# Altium footprint library Capacitor.PcbLib: 39 footprints (part 1 of 3)
Each footprint in its own frame and in the unit in brackets; x right, y up, seen from the top. Pads: shape width x height; smd on the part's side, far side on the other; paste and mask are expansions set on the pad; w line width, h text height; cw(c..) or ccw(c..) is an arc to the next point about the centre after c.
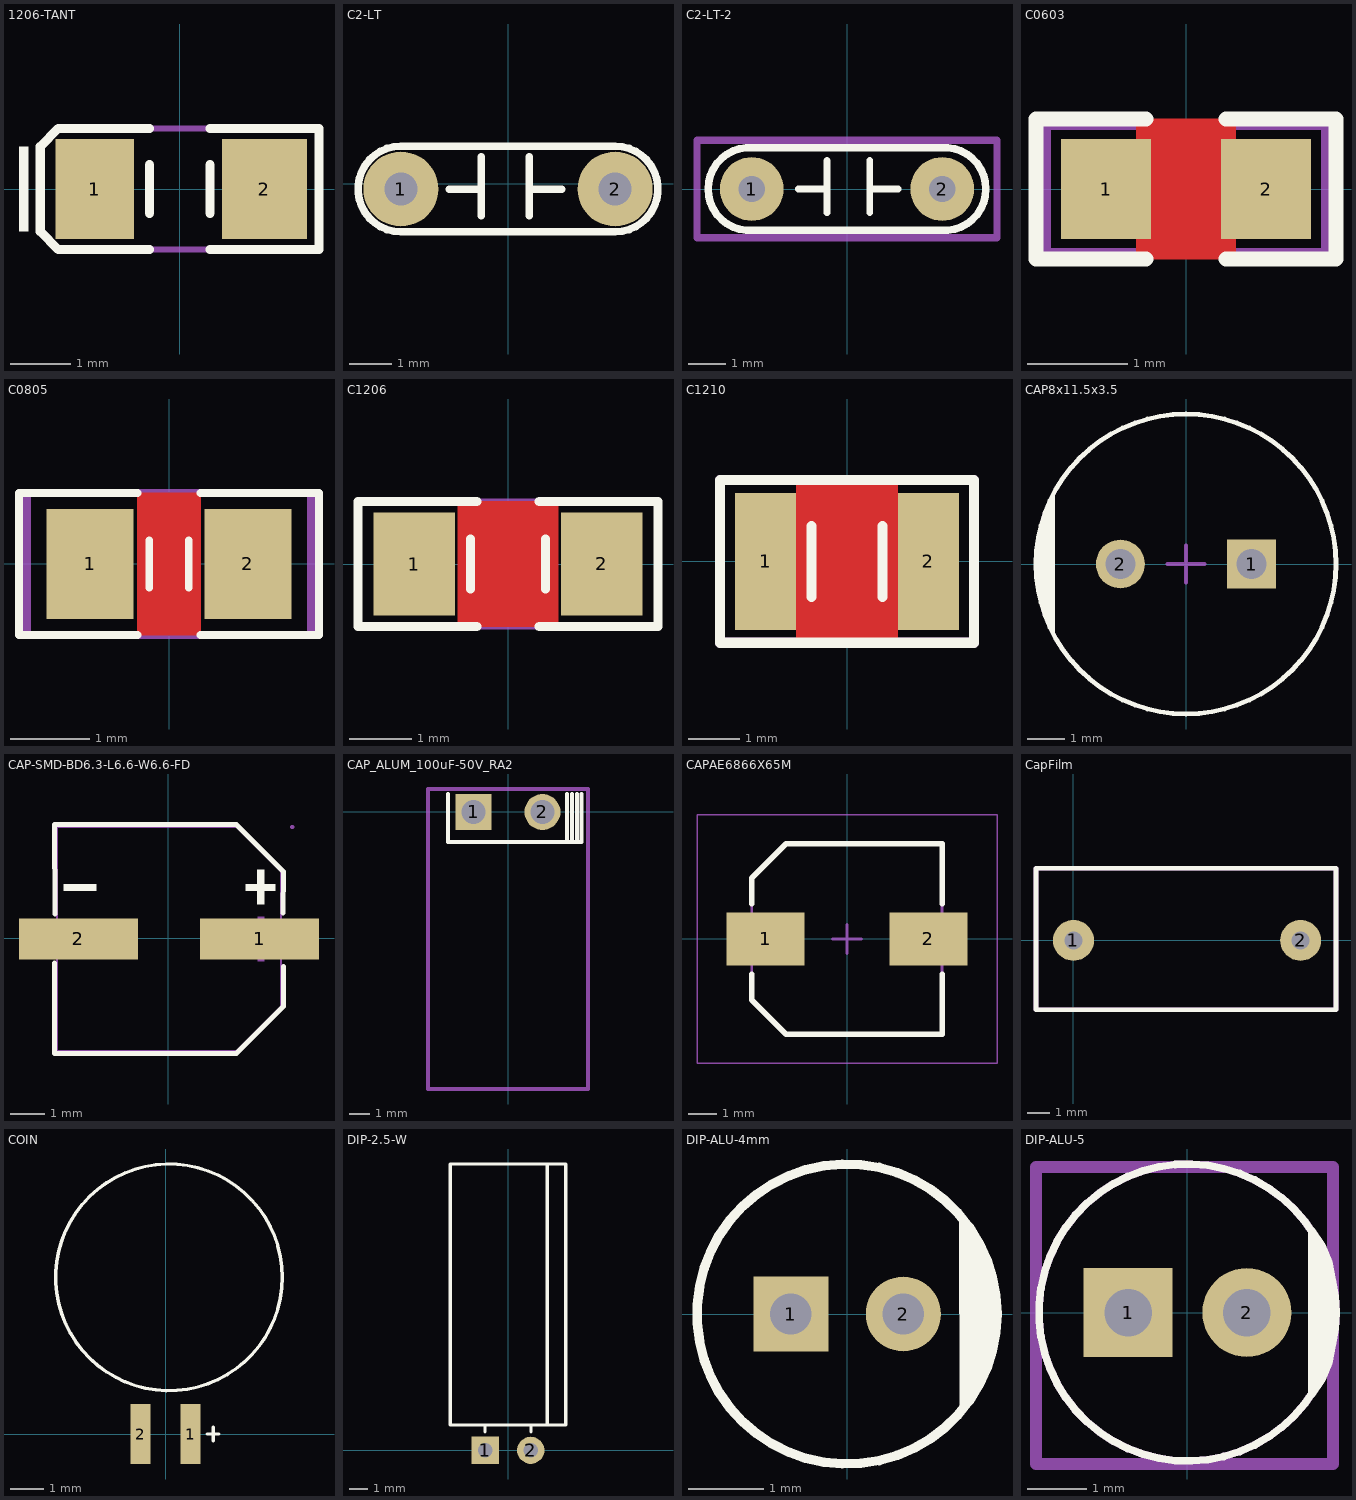
[diagram p0: the footprints below, top view; thin cyan lines are the x and y axes]

## 1206-TANT [mm]
pads (2):
  rect 1.3x1.651 smd: 1(-1.4,0)
  rect 1.4x1.651 smd: 2(1.4,0)
Top Overlay:
  region: -2.5,0.7 -2.65,0.7 -2.65,-0.7 -2.5,-0.7
  lines w0.15: -0.5,-1 -2,-1 ; -0.5,-0.4 -0.5,0.4 ; -0.5,1 -2,1 ; 0.5,-1 2.3,-1 2.3,1 0.5,1 ; 0.5,-0.4 0.5,0.4 ; -2.3,-0.7 -2,-1 ; -2.3,-0.7 -2.3,0 -2.3,0.7 ; -2.3,-0.7 -2,-1 ; -2.3,0.7 -2,1 ; -2.3,0.7 -2,1
Mechanical 13:
  lines w0.1: -2.3,-0.7 -2,-1 ; -2.3,-0.7 -2,-1 ; -2.3,-0.7 -2.3,0 -2.3,0.7 ; -2.3,0.7 -2,1 ; -2.3,0.7 -2,1 ; -2,-1 0.5,-1 2.3,-1 2.3,1 0.5,1 -2,1
  text ".Designator" at -1.905,-0.381 h1
Mechanical 15:
  lines w0.1: -2.3,-0.7 -2,-1 ; -2.3,-0.7 -2,-1 ; -2.3,-0.7 -2.3,0 -2.3,0.7 ; -2.3,0.7 -2,1 ; -2.3,0.7 -2,1 ; -2,-1 0.5,-1 2.3,-1 2.3,1 0.5,1 -2,1
  text ".Comment" at -1.651,-0.381 h1
3D body "T491A106K016AT.step": height 1.81, standoff 0.01, extent -1.7,-0.9 1.7,0.9

## C2-LT [mil]
height 200
pads (2):
  round 70 hole 31: 1(-100,-5) 2(100,-5)
Top Overlay:
  lines w7: -55,-5 -25,-5 ; -25,-30 -25,25 ; 20,-30 20,25 ; 20,-5 50,-5 ; -100,-45 cw(c-100,-5) -100,35 100,35 cw(c100,-5) 100,-45 -100,-45
Mechanical 13:
  text ".Designator" at -51.38,-11.06 h39.37
Mechanical 15:
  text ".Comment" at -41.38,-11.06 h39.37
3D body "User Library-0,1uF Capacitor 5,08 mm.step": height 275.59, standoff -54.72, extent -109.84,-48.3 109.84,38.7

## C2-LT-2 [mm]
height 5.08
pads (2):
  round 1.7 hole 0.7: 1(-2.54,0) 2(2.54,0)
Top Overlay:
  lines w0.178: -1.297,0 -0.535,0 ; -0.535,-0.635 -0.535,0.762 ; 0.608,-0.635 0.608,0.762 ; 0.608,0 1.37,0
  lines w0.2: -2.5,-1.1 cw(c-2.6,0) -2.5,1.1 2.5,1.1 cw(c2.6,0) 2.5,-1.1 -2.5,-1.1
Mechanical 13:
  lines w0.2: -4,-1.3 -4,1.3 4,1.3 4,-1.3 -4,-1.3
  text ".Designator" at -2.6,-0.3 h1.5
Mechanical 15:
  lines w0.2: -4,-1.3 4,-1.3 4,1.3 -4,1.3 -4,-1.3
  text ".Comment" at -2.6,-0.3 h1.5
3D body "tu hoa 5mm.step": height 10.35, standoff -2.22, extent -3.961,-1.265 4.039,1.245

## C0603 [mm]
pads (2):
  rect 0.9x1 smd: 1(-0.8,0) 2(0.8,0)
Top Layer:
  pour cut-out: -0.5,0.7 -0.5,-0.7 0.5,-0.7 0.5,0.7
Top Overlay:
  lines w0.15: -0.4,-0.7 -1.5,-0.7 -1.5,0.7 -0.4,0.7 ; 0.4,-0.7 1.5,-0.7 1.5,0.7 0.4,0.7
Mechanical 13:
  lines w0.1: -1.4,-0.64 0.4,-0.64 1.4,-0.64 1.4,0.64 0.4,0.64 -1.4,0.64 -1.4,-0.64
  text ".Designator" at -1.27,-0.254 h1
Mechanical 15:
  lines w0.1: -1.4,-0.64 0.4,-0.64 1.4,-0.64 1.4,0.64 0.4,0.64 -1.4,0.64 -1.4,-0.64
  text ".Comment" at -1.27,-0.254 h1
3D body "C0603X473K5RACTU.step": height 0.9, standoff -0.05, extent -0.9,-0.475 0.87,0.475

## C0805 [mm]
pads (2):
  rect 1.1x1.397 smd: 1(-1,0) 2(1,0)
Top Layer:
  pour cut-out: -0.4,0.9 -0.4,-0.9 0.4,-0.9 0.4,0.9
Top Overlay:
  lines w0.1: -0.4,-0.9 -1.9,-0.9 -1.9,0.9 -0.4,0.9 ; -0.25,-0.3 -0.25,0.3 ; 0.25,-0.3 0.25,0.3 ; 0.4,-0.9 1.9,-0.9 1.9,0.9 0.4,0.9
Mechanical 13:
  lines w0.1: -1.8,-0.9 -1.8,0.9 0.4,0.9 1.8,0.9 1.8,-0.9 0.4,-0.9 -1.8,-0.9
  text ".Designator" at -1.4,-0.2 h0.8
Mechanical 15:
  lines w0.1: -1.8,-0.9 -1.8,0.9 0.4,0.9 1.8,0.9 1.8,-0.9 0.4,-0.9 -1.8,-0.9
  text ".Comment" at -1.2,-0.2 h0.8
3D body "C0805C223K5RACTU.step": height 0.9, standoff 0.02, extent -1.091,-0.725 1.109,0.725

## C1206 [mm]
pads (2):
  rect 1.3x1.651 smd: 1(-1.5,0) 2(1.5,0)
Top Layer:
  pour cut-out: -0.8,1 -0.8,-1 0.8,-1 0.8,1
Top Overlay:
  lines w0.15: -0.6,-0.4 -0.6,0.4 ; -0.5,-1 -2.4,-1 -2.4,1 -0.5,1 ; 0.5,-1 2.4,-1 2.4,1 0.5,1 ; 0.6,-0.4 0.6,0.4
Mechanical 13:
  lines w0.1: -2.4,-1 0.8,-1 2.4,-1 2.4,1 0.8,1 -2.4,1 -2.4,-1
  text ".Designator" at -1.705,-0.381 h1
Mechanical 15:
  lines w0.1: -2.4,-1 -2.4,1 0.8,1 2.4,1 2.4,-1 0.8,-1 -2.4,-1
  text ".Comment" at -1.451,-0.381 h1
3D body "74717.stp": height 1.34, standoff -0.06, extent -1.7,-0.9 1.7,0.9
3D body "C1206C222KDRACTU.step": height 1, standoff -0.1, extent -1.6,-0.9 1.8,0.9

## C1210 [mm]
pads (2):
  rect 1.2x2.7 smd: 1(-1.6,0) 2(1.6,0)
Top Layer:
  pour cut-out: -1,1.5 -1,-1.7 1,-1.7 1,1.5
Top Overlay:
  lines w0.2: -0.7,-0.7 -0.7,0.7 ; 0.7,-0.7 0.7,0.7 ; -2.5,-1.6 2.5,-1.6 2.5,1.6 -2.5,1.6 -2.5,-1.6
Mechanical 13:
  lines w0.2: -2.5,-1.6 -2.5,1.6 2.5,1.6 2.5,-1.6 -2.5,-1.6
  text ".Designator" at -2.005,-0.381 h1
Mechanical 15:
  lines w0.2: -2.5,-1.6 -2.5,1.6 2.5,1.6 2.5,-1.6 -2.5,-1.6
  text ".Comment" at -1.751,-0.381 h1
3D body "C1210C225K1RACTU.step": height 2.09, standoff -0.01, extent -1.7,-1.35 1.7,1.35

## CAP8x11.5x3.5 [mm] "Aluminum Electrolytic Capacitors, 8x14mm"
height 14
pads (2):
  rect 1.3x1.3 hole 0.8: 1(1.75,0)
  round 1.3 hole 0.8: 2(-1.75,0)
Top Overlay:
  circle w0.127: c0,0 r4
  region: -3.5,1.9 -3.5,-2 -3.99,-0.7 -3.99,0.7
Mechanical 13:
  circle w0.1: c0,0 r4
  text ".Designator" at -1.705,1.019 h1
Mechanical 15:
  lines w0.1: -0.5,0 0.5,0 ; 0,-0.5 0,0.5
  text ".Comment" at -1.451,1.019 h1
3D body "CAP.STEP": height 13.01, standoff -2, extent -4.005,-4 4.005,4

## CAP-SMD-BD6.3-L6.6-W6.6-FD [mm]
pads (2):
  rect 3.5x1.2 smd paste+0 mask+0.051: 1(2.695,-0.025) 2(-2.645,-0.025)
Top Overlay:
  region: 2.83,0.994 2.83,2.019 2.632,2.019 2.632,0.994
  region: -3.077,1.394 -3.077,1.592 -2.113,1.592 -2.113,1.394
  region: 3.162,1.394 3.162,1.592 2.287,1.592 2.287,1.394
  lines w0.152: -3.344,-0.732 -3.351,-3.401 2.005,-3.401 3.402,-2.005 3.402,-0.831 ; -3.33,0.715 -3.35,3.351 2.007,3.351 3.401,1.957 3.389,0.744
Mechanical 6:
  region: -3.077,-0.124 -3.077,0.074 -2.285,0.074 -2.285,-0.124
  region: 3.127,-0.124 3.127,0.074 2.335,0.074 2.335,-0.124
  region: 2.835,-0.685 2.835,0.635 2.637,0.635 2.637,-0.685
Mechanical 15:
  region: -1.041,-0.35 -3.641,-0.35 -3.641,0.3 -1.041,0.3
  region: 3.659,-0.35 1.059,-0.35 1.059,0.3 3.659,0.3
  region: 3.599,3.275 3.6,3.251 3.635,3.218 3.683,3.218 3.718,3.251 3.719,3.275 3.718,3.299 3.683,3.333 3.635,3.333 3.6,3.299
  lines w0.051: -3.275,-3.325 -3.275,3.275 2.005,3.275 3.325,1.955 3.325,-2.005 2.005,-3.325 -3.275,-3.325
3D body "CAPAE6866X65M.step": height 6.5, standoff 0, extent -3.4,-3.35 3.4,3.25

## CAP_ALUM_100uF-50V_RA2 [mm] "CAP ALUM 100UF 20% 50V HORIZONTAL"
pads (2):
  rect 1.8x1.8 hole 1.2: 1(-1.725,0)
  round 1.8 hole 1.2: 2(1.725,0)
Top Overlay:
  lines w0.2: -3,0.9 -3,-1.5 3.2,-1.5 3.2,0.9 ; 2.925,-1.5 3.675,-1.5 3.675,0.9 ; 2.95,-1.475 2.95,0.9 ; 3.45,-1.45 3.45,0.9
Mechanical 13:
  lines w0.2: -4,1.125 -4,-13.875 4,-13.875 4,1.151 -4,1.15
  text ".Designator" at -2.225,-7.372 h2
3D body "ElCapRA-3.5-8x12.step": height 9.6, standoff -1.5, extent -4,-14.001 4.001,0.249

## CAPAE6866X65M [mm] "Aluminum Electrolytic Capacitor, Body 6.60x6.60x6.50mm, IPC Low Density"
height 6.5
pads (2):
  rect 2.7x1.85 smd: 1(-2.825,0) 2(2.825,0)
Top Overlay:
  lines w0.2: -3.3,-1.225 -3.3,-2.113 -2.113,-3.3 3.3,-3.3 3.3,-1.225 ; -3.3,1.225 -3.3,2.113 -2.113,3.3 3.3,3.3 3.3,1.225
Mechanical 13:
  lines w0.1: -3.3,-2.113 -2.113,-3.3 3.3,-3.3 3.3,3.3 -2.113,3.3 -3.3,2.113 -3.3,-2.113
Mechanical 15:
  lines w0.05: -5.2,-4.3 -5.2,4.3 5.2,4.3 5.2,-4.3 -5.2,-4.3
  lines w0.1: -0.5,0 0.5,0 ; 0,-0.5 0,0.5
3D body "CAPAE6866X65M.step": height 6.5, standoff 0, extent -3.4,-3.3 3.4,3.3

## CapFilm [mm]
pads (2):
  round 1.8 hole 0.8: 1(0,0) 2(10,0)
Top Overlay:
  lines w0.2: -1.651,-3.048 11.557,-3.048 11.557,3.175 -1.651,3.175 -1.651,-3.048
Mechanical 13:
  lines w0.2: -1.651,-3.048 -1.651,3.175 11.557,3.175 11.557,-3.048 -1.651,-3.048
  text ".Designator" at 2.54,-0.127 h1
Mechanical 15:
  lines w0.2: -1.651,-3.048 -1.651,3.175 11.557,3.175 11.557,-3.048 -1.651,-3.048
  text ".Comment" at 2.794,-0.127 h1
3D body "R46KF310050P0K.step": height 12.1, standoff -27, extent -1.647,-3.048 11.553,3.157

## COIN [mm]
pads (2):
  rect 0.6x1.8 smd: 1(0.75,0) 2(-0.75,0)
Top Overlay:
  circle w0.1: c0.1,4.7 r3.4
  lines w0.1: 1.25,0 1.6,0 ; 1.425,-0.2 1.425,0.2
3D body: height 2.6, standoff 0, extent -3.25,1.3 3.55,8.1
3D body: height 0.2, standoff 0, extent 0.45,-0.3 1.05,1.45
3D body: height 0.2, standoff 0, extent -1.05,-0.3 -0.45,1.45

## DIP-2.5-W [mm]
pads (2):
  rect 1.5x1.5 hole 0.8: 1(-1.25,0)
  round 1.5 hole 0.8: 2(1.25,0)
Top Overlay:
  lines w0.178: -1.27,1.016 -1.27,1.397 ; 1.27,1.016 1.27,1.397 ; 2.159,1.397 2.159,15.748 ; -3.175,1.397 -3.175,15.748 3.175,15.748 3.175,1.397 -3.175,1.397
3D body "User Library-Cap electro 6_3x11x2_5mm RA.step": height 6.38, standoff -2.8, extent -3.175,-0.271 3.176,13.05
3D body "CAPPRD250W60D660H13002.STEP": height 6.48, standoff -0.12, extent -3.302,0.795 3.308,15.805

## DIP-ALU-4mm [mm]
pads (2):
  rect 1x1 hole 0.55: 1(-0.75,0)
  round 1 hole 0.55: 2(0.75,0)
Top Overlay:
  circle w0.127: c0,0 r2
  region: 1.5,1.228 1.5,-1.228 1.596,-1.155 1.755,-0.973 1.875,-0.764 1.952,-0.536 1.968,-0.416 1.968,0.263 1.96,0.401 1.89,0.668 1.77,0.916 1.603,1.136
3D body "CAPPRD150W55D400H800.STEP": height 8.01, standoff -2, extent -2.005,-2 2.005,2

## DIP-ALU-5 [mm] "Polarized capacitors, Aluminum Electrolytic Capacitors, 2-Leads, Body 5x11x2x0.5"
height 11
pads (2):
  rect 1.5x1.5 hole 0.8: 1(-1,0)
  round 1.5 hole 0.8: 2(1,0)
Top Overlay:
  circle w0.127: c0,0 r2.5
  region: 2.032,1.524 2.032,-1.524 2.143,-1.413 2.318,-1.151 2.439,-0.86 2.5,-0.552 2.5,-0.394 2.5,0.394 2.5,0.552 2.439,0.86 2.318,1.151 2.143,1.413
Mechanical 13:
  circle w0.127: c0,0 r2.5
  lines w0.2: -2.55,-2.55 2.45,-2.55 2.45,2.45 -2.55,2.45 -2.55,-2.55
  text ".Designator" at -2.35,-0.7 h1.5
Mechanical 15:
  circle w0.127: c0,0 r2.5
  lines w0.2: -2.55,-2.55 -2.55,2.45 2.45,2.45 2.45,-2.55 -2.55,-2.55
  text ".Comment" at -2.35,-0.45 h1.5
3D body "CAPPRD200W60D500H930.STEP": height 9.31, standoff -2, extent -2.555,-2.55 2.455,2.45